# Altium footprint library Arduino.PcbLib: 4 footprints
Each footprint in its own frame and in the unit in brackets; x right, y up, seen from the top. Pads: shape width x height; smd on the part's side, far side on the other; paste and mask are expansions set on the pad; w line width, h text height; cw(c..) or ccw(c..) is an arc to the next point about the centre after c.
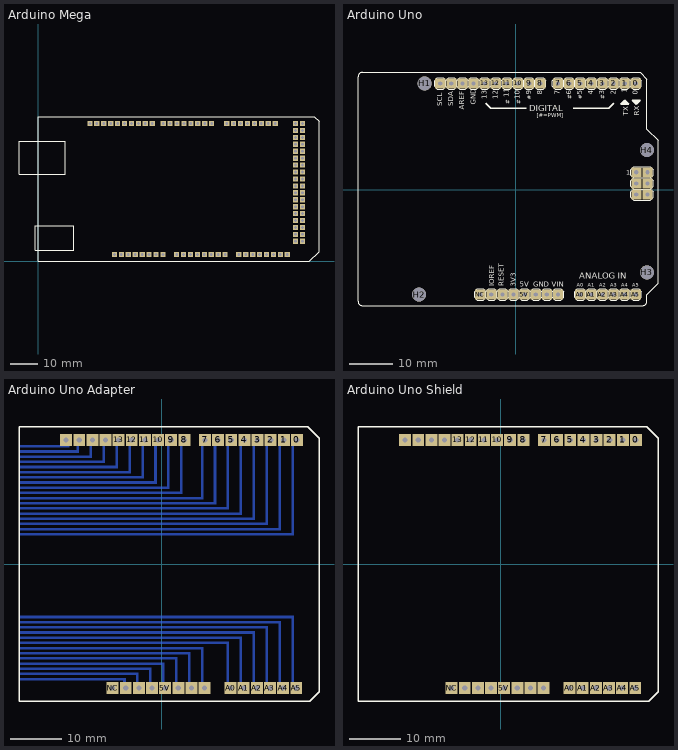
[diagram p0: the footprints below, top view; thin cyan lines are the x and y axes]

## Arduino Mega [mm]
pads (86):
  rect 1.9x1.9 hole 1: 0(63.64,50.5) 1(61.1,50.5) 2(58.56,50.5) 3(56.02,50.5) 3V3(35.62,2.5) 4(53.48,50.5) 5(50.94,50.5) 5V(38.16,2.5) 5V_2(94.4,50.5) 5V_3(96.94,50.5) 6(48.4,50.5) 7(45.86,50.5) 8(41.86,50.5) 9(39.32,50.5) 10(36.78,50.5) 11(34.24,50.5) 12(31.7,50.5) 13(29.16,50.5) 14(69.16,50.5) 15(71.7,50.5) 16(74.24,50.5) 17(76.78,50.5) 18(79.32,50.5) 19(81.86,50.5) 20(84.4,50.5) 21(86.94,50.5) 22(94.4,47.96) 23(96.94,47.96) 24(94.4,45.42) 25(96.94,45.42) 26(94.4,42.88) 27(96.94,42.88) 28(94.4,40.34) 29(96.94,40.34) 30(94.4,37.8) 31(96.94,37.8) 32(94.4,35.26) 33(96.94,35.26) 34(94.4,32.72) 35(96.94,32.72) 36(94.4,30.18) 37(96.94,30.18) 38(94.4,27.64) 39(96.94,27.64) 40(94.4,25.1) 41(96.94,25.1) 42(94.4,22.56) 43(96.94,22.56) 44(94.4,20.02) 45(96.94,20.02) 46(94.4,17.48) 47(96.94,17.48) 48(94.4,14.94) 49(96.94,14.94) 50(94.4,12.4) 51(96.94,12.4) 52(94.4,9.86) 53(96.94,9.86) A0(50.8,2.5) A1(53.34,2.5) A2(55.88,2.5) A3(58.42,2.5) A4(60.96,2.5) A5(63.5,2.5) A6(66.04,2.5) A7(68.58,2.5) A8(73.6,2.5) A9(76.14,2.5) A10(78.68,2.5) A11(81.22,2.5) A12(83.76,2.5) A13(86.3,2.5) A14(88.84,2.5) A15(91.38,2.5) AREF(24.08,50.5) GND1(40.7,2.5) GND2(43.24,2.5) GND3(26.62,50.5) GND4(94.4,7.32) GND5(96.94,7.32) IOREF(30.54,2.5) NC(28,2.5) RESET(33.08,2.5) SCL(19,50.5) SDA(21.54,50.5) Vin(45.78,2.5)
Top Overlay:
  lines w0.254: -7,32 -7,44 10,44 10,32 -7,32 ; -1,4 13,4 13,13 -1,13 -1,4 ; 0,0 99.5,0 103,3.5 103,51.3 101.3,53 0,53 0,0

## Arduino Uno [mm]
pads (42):
  rect 2.3x2.3 hole 1: 0(27.44,24.26) 1(24.9,24.26) 2(22.36,24.26) 3(19.82,24.26) 3V3(-0.5,-24) 4(17.28,24.26) 5(14.74,24.26) 5V(2.04,-24) 6(12.2,24.26) 7(9.66,24.26) 8(5.596,24.26) 9(3.056,24.26) 10(0.516,24.26) 11(-2.024,24.26) 12(-4.564,24.26) 13(-7.104,24.26) A0(14.74,-24) A1(17.28,-24) A2(19.82,-24) A3(22.36,-24) A4(24.9,-24) A5(27.44,-24) AREF(-12.184,24.26) GND1(4.58,-24) GND2(7.12,-24) GND3(-9.644,24.26) ICSP1(27.567,3.94) ICSP2(30.107,3.94) ICSP3(27.567,1.4) ICSP4(30.107,1.4) ICSP5(27.567,-1.14) ICSP6(30.107,-1.14) IOREF(-5.58,-24) NC(-8.12,-24) RESET(-3.04,-24) SCL(-17.264,24.26) SDA(-14.724,24.26) Vin(9.66,-24)
  round 3.2 hole 3.2: H1(-20.82,24.26) H2(-22.09,-24) H3(29.98,-18.92) H4(29.98,9.02)
Bottom Layer:
  lines w0.305: -14.724,24.26 -14.47,24.26
Top Overlay:
  drawing of 281 lines, arcs and shapes, not listed
  text "5V" at 0.897,-22.222 h1.21
  text "A0" at 13.953,-22.197 h0.86
  text "ANALOG IN" at 14.486,-20.444 h1.42
  text "AREF" at -11.814,18.203 h1.21
  text "1" at 25.205,3.407 h1.08
  text "GND" at -9.172,19.386 h1.21
  text "RESET" at -2.786,-22.095 h1.21
  text "3V3" at 0.008,-22.222 h1.21
  text "A1" at 16.493,-22.197 h0.86
  text "A2" at 19.033,-22.197 h0.86
  text "A3" at 21.573,-22.197 h0.86
  text "A4" at 24.113,-22.197 h0.86
  text "A5" at 26.653,-22.197 h0.86
  text "VIN" at 8.263,-22.222 h1.21
  text "GND" at 3.97,-22.222 h1.21
  text "IOREF" at -4.945,-22.095 h1.21
  text "DIGITAL" at 3.107,17.885 h1.42
  text "TX" at 25.662,16.919 h1.21
  text "RX" at 28.202,16.894 h1.21
  text "13" at -6.657,20.669 h1.21
  text "12" at -4.117,20.669 h1.21
  text "11" at -1.577,21.072 h1.21
  text "10" at 0.963,20.669 h1.21
  text "9" at 3.503,21.676 h1.21
  text "8" at 6.043,21.676 h1.21
  text "7" at 10.107,21.676 h1.21
  text "6" at 12.647,21.676 h1.21
  text "5" at 15.187,21.676 h1.21
  text "4" at 17.727,21.676 h1.21
  text "3" at 20.267,21.676 h1.21
  text "2" at 22.807,21.676 h1.21
  text "1" at 25.347,22.079 h1.21
  text "0" at 27.887,21.676 h1.21
  text "[#=PWM]" at 4.834,16.513 h0.95
  text "#" at -1.4,19.5 h0.95
  text "#" at 1.1,19.5 h0.95
  text "#" at 15.2,20.6 h0.95
  text "#" at 20.3,20.6 h0.95
  text "#" at 12.8,20.6 h0.95
  text "#" at 3.6,20.5 h0.95
  text "SCL" at -16.8,19.1 h1.21
  text "SDA" at -14.271,19.087 h1.21

## Arduino Uno Adapter [mm]
pads (32):
  rect 2.3x2.3 hole 1: 0(26.1,24) 1(23.56,24) 2(21.02,24) 3(18.48,24) 3V3(-1.92,-24) 4(15.94,24) 5(13.4,24) 5V(0.62,-24) 6(10.86,24) 7(8.32,24) 8(4.32,24) 9(1.78,24) 10(-0.76,24) 11(-3.3,24) 12(-5.84,24) 13(-8.38,24) A0(13.26,-24) A1(15.8,-24) A2(18.34,-24) A3(20.88,-24) A4(23.42,-24) A5(25.96,-24) AREF(-13.46,24) GND1(3.16,-24) GND2(5.7,-24) GND3(-10.92,24) IOREF(-7,-24) NC(-9.54,-24) RESET(-4.46,-24) SCL(-18.54,24) SDA(-16,24) Vin(8.24,-24)
Bottom Layer:
  rectangle: -16.5,21.5 -16,24
  rectangle: -27.5,21.5 -16,22
  rectangle: -27.5,22.5 -17.9,23
  rectangle: -27.5,20.5 -13.5,21
  rectangle: -27.5,19.5 -11,20
  rectangle: -27.5,18.5 -8.5,19
  rectangle: -27.5,17.5 -6,18
  rectangle: -27.5,16.5 -3.5,17
  rectangle: -27.5,15.5 -1,16
  rectangle: -27.5,14.5 1.5,15
  rectangle: -27.5,13.5 4,14
  rectangle: -27.5,12.5 8,13
  rectangle: -27.5,11.5 10.5,12
  rectangle: -27.5,10.5 13,11
  rectangle: -27.5,5.5 25.5,6
  rectangle: -27.5,6.5 23,7
  rectangle: -27.5,7.5 20.5,8
  rectangle: -27.5,8.5 18,9
  rectangle: -27.5,9.5 15.5,10
  rectangle: -14,20.5 -13.5,24
  rectangle: -11.5,19.5 -11,24
  rectangle: -9,18.5 -8.5,24
  rectangle: -6.5,17.5 -6,24
  rectangle: -4,16.5 -3.5,24
  rectangle: -1.5,15.5 -1,24
  rectangle: 1,14.5 1.5,24
  rectangle: 3.5,13.5 4,24
  rectangle: 7.5,12.5 8,24
  rectangle: 17.5,-23.5 18,-13
  rectangle: 15,-23.5 15.5,-14
  rectangle: 12.5,-23.5 13,-15
  rectangle: 7.5,-23.5 8,-16
  rectangle: 5,-23.5 5.5,-17
  rectangle: 2.5,-23.5 3,-18
  rectangle: 0,-23.5 0.5,-19
  rectangle: -2.5,-23.5 -2,-20
  rectangle: -5,-23.5 -4.5,-21
  rectangle: -27.5,-10.5 25.5,-10
  rectangle: -27.5,-11.5 23,-11
  rectangle: -27.5,-12.5 20.5,-12
  rectangle: -27.5,-13.5 18,-13
  rectangle: -27.5,-14.5 15.5,-14
  rectangle: -27.5,-15.5 13,-15
  rectangle: -27.5,-16.5 8,-16
  rectangle: -27.5,-17.5 5.5,-17
  rectangle: -27.5,-18.5 3,-18
  rectangle: -27.5,-19.5 0.5,-19
  rectangle: -27.5,-20.5 -2,-20
  rectangle: -27.5,-21.5 -4.5,-21
  rectangle: -27.5,-22.5 -7,-22
  rectangle: -7.5,-23.5 -7,-22
  rectangle: 20,-24 20.5,-12
  rectangle: 22.5,-24 23,-11
  rectangle: 25,-24 25.5,-10
  rectangle: 25,5.5 25.5,24
  rectangle: 22.5,6.5 23,24
  rectangle: 20,7.5 20.5,24
  rectangle: 17.5,8.5 18,24
  rectangle: 15,9.5 15.5,24
  rectangle: 12.5,10.5 13,24
  rectangle: 10,11.5 10.5,24
Top Overlay:
  lines w0.254: -27.64,-26.5 -27.64,26.5 28.16,26.5 30.36,24.3 30.36,-6.9 30.36,-24.7 28.56,-26.5 -27.64,-26.5

## Arduino Uno Shield [mm]
pads (32):
  rect 2.3x2.3 hole 1: 0(26.1,24) 1(23.56,24) 2(21.02,24) 3(18.48,24) 3V3(-1.92,-24) 4(15.94,24) 5(13.4,24) 5V(0.62,-24) 6(10.86,24) 7(8.32,24) 8(4.32,24) 9(1.78,24) 10(-0.76,24) 11(-3.3,24) 12(-5.84,24) 13(-8.38,24) A0(13.26,-24) A1(15.8,-24) A2(18.34,-24) A3(20.88,-24) A4(23.42,-24) A5(25.96,-24) AREF(-13.46,24) GND1(3.16,-24) GND2(5.7,-24) GND3(-10.92,24) IOREF(-7,-24) NC(-9.54,-24) RESET(-4.46,-24) SCL(-18.54,24) SDA(-16,24) Vin(8.24,-24)
Top Overlay:
  lines w0.254: -27.64,-26.5 -27.64,26.5 28.16,26.5 30.36,24.3 30.36,-6.9 30.36,-24.7 28.56,-26.5 -27.64,-26.5